# EAGLE library part 615008148521 (library WR-MJ)
WR-MJ Cat 3 Modular Jacks – THT Characteristics Shieldingless and Shielded with EMI-Spring option Optional LEDs in various sequences Vertical and Horizontal orientation Stacked and assembled configurations Tray Packaging Properties PoE++ Compatible up to 100W (IEEE 802.3bt) UL and cULus-Certified UL94-V0 insulator material Ethernet Category 3 – Category 5 under conditions Applications Networks Internet of Things mart Buildings <https://www.we-online.com/components/media/o863419v209%20multi-WR-MJTH-615002138421.jpg> Details see: www.we-online.com/en/components/products/WR_MJ_MODULAR_JACKS_THT <www.we-online.com/catalog/WR_MJ_MODULAR_JACKS_THT/?utm_source=eagle_model&utm_medium=description_link&utm_campaign=eisos_eagle> Updated by Yingchun Shan 2020-01-06 2020(C) Würth Elektronik
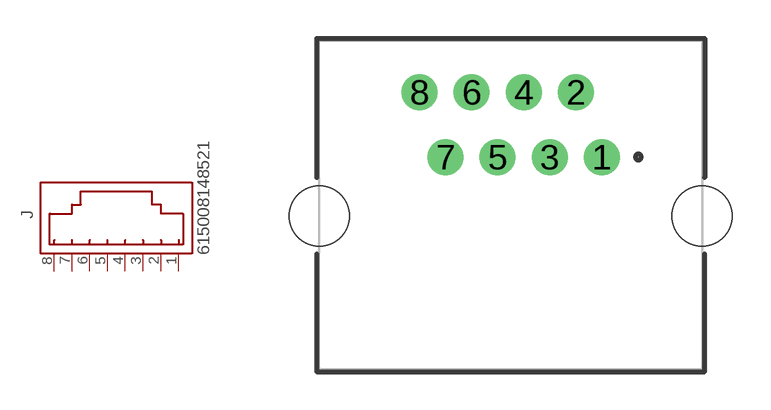
[diagram p56: symbol with the pads of 615008148521; footprint 615008148521]

Designator prefix J

## 615008148521 (APPLICATION-SYSTEM: CAT 3; DATASHEET-URL: https://www.we-online.com/redexpert/spec/615008148521?ae; EMI: No; LED: /; MOUNT: THT; PART-NUMBER: 615008148521; SIZE: Horizontal; TAB: Up; VALUE: 615008148521; XPXC: 8P8C)  [615008148521]
1  1  pas
2  2  pas
3  3  pas
4  4  pas
5  5  pas
6  6  pas
7  7  pas
8  8  pas

## Footprint 615008148521 (pad centres in mm)
WR-MJ Modular Jack Horizontal Plastic 8P8C Tab Up
drill 0.9: 1 3.57,1.875; 2 2.55,4.415; 3 1.53,1.875; 4 0.51,4.415; 5 -0.51,1.875; 6 -1.53,4.415; 7 -2.55,1.875; 8 -3.57,4.415
hole 2.36 at -7.5,-0.425
hole 2.36 at 7.5,-0.425